# EAGLE library part MP1482 (library DECADE-libraries20151104)
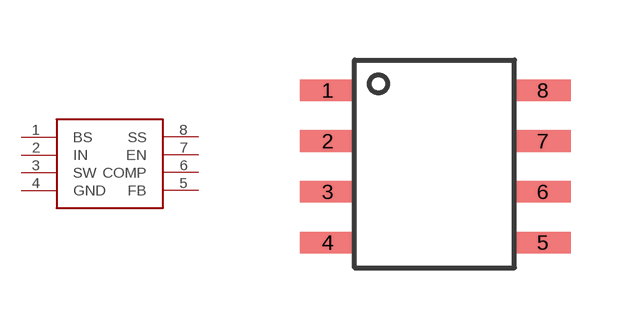
[diagram p121: symbol with the pads of DECADE-SOP8; footprint DECADE-SOP8]

Designator prefix -

## MP1482  [DECADE-SOP8]
1  BS
2  IN
3  SW
4  GND
5  FB
6  COMP
7  EN
8  SS

## Footprint DECADE-SOP8 (pad centres in mm)
smd 1.4 x 0.54: 1 -2.57,4.44; 2 -2.57,3.17; 3 -2.57,1.9; 4 -2.57,0.63; 5 2.81,0.63; 6 2.81,1.9; 7 2.81,3.17; 8 2.81,4.44